# Altium footprint library SiT8008AI-72-18E-100.000000G.PcbLib: 1 footprints
Each footprint in its own frame and in the unit in brackets; x right, y up, seen from the top. Pads: shape width x height; smd on the part's side, far side on the other; paste and mask are expansions set on the pad; w line width, h text height; cw(c..) or ccw(c..) is an arc to the next point about the centre after c.
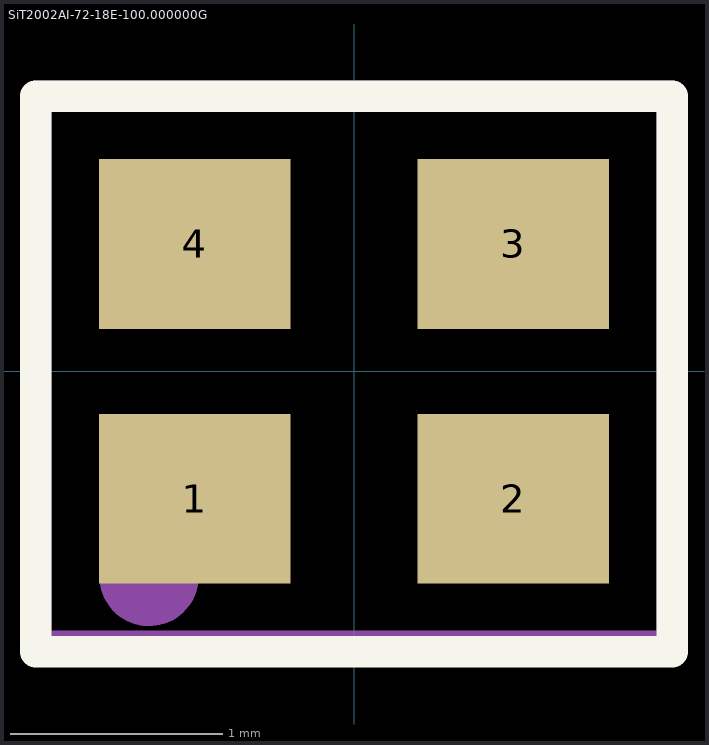
[diagram p0: the footprint, top view; thin cyan lines are the x and y axes]

## SiT2002AI-72-18E-100.000000G [mm] "Oscillator 100MHz 50 ppm"
pads (4):
  rect 0.9x0.8 smd: 1(-0.75,-0.6) 2(0.75,-0.6) 3(0.75,0.6) 4(-0.75,0.6)
Top Overlay:
  lines w0.15: -1.499,-1.321 1.499,-1.321 1.499,1.295 -1.499,1.295 -1.499,-1.321
Mechanical 29:
  lines w0.15: -1.499,-1.295 -1.499,1.295 1.499,1.295 1.499,-1.295 -1.499,-1.295
  lines w0.254: -0.858,-0.953 ccw(c-0.965,-0.965) -0.857,-0.965
  text ".Designator" at -0.813,-0.178 h1.02
3D body: height 1, standoff 0, extent -1.016,-0.762 1.016,0.762